# EAGLE library part LCD-ST7789-1.3INCH (library ncat)
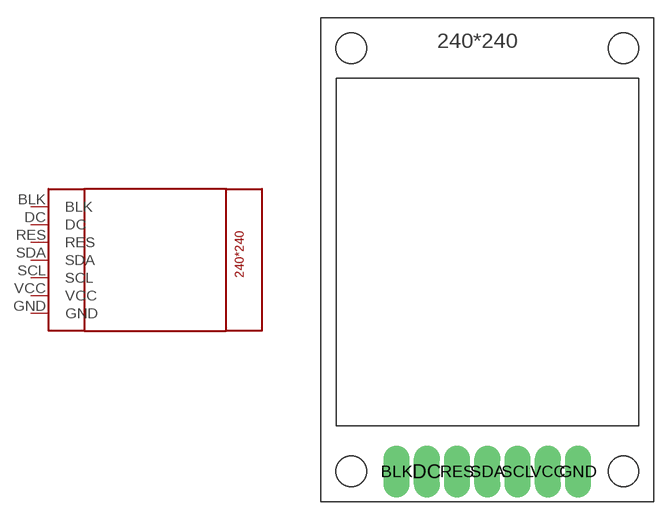
[diagram p1: symbol with the pads of LCD-ST7789-1.3INCH; footprint LCD-ST7789-1.3INCH]

Designator prefix -

## LCD-ST7789-1.3INCH  [LCD-ST7789-1.3INCH]
BLK  BLK
DC  DC
GND  GND
RES  RES
SCL  SCL
SDA  SDA
VCC  VCC

## Footprint LCD-ST7789-1.3INCH (pad centres in mm)
drill 1.4 pad 2.184 long: BLK -7.62,-19.05; DC -5.08,-19.05; GND 7.62,-19.05; RES -2.54,-19.05; SCL 2.54,-19.05; SDA 0,-19.05; VCC 5.08,-19.05